# Altium footprint library TerminalBlock_MetzConnect.PcbLib: 61 footprints (part 3 of 4)
Each footprint in its own frame and in the unit in brackets; x right, y up, seen from the top. Pads: shape width x height; smd on the part's side, far side on the other; paste and mask are expansions set on the pad; w line width, h text height; cw(c..) or ccw(c..) is an arc to the next point about the centre after c.
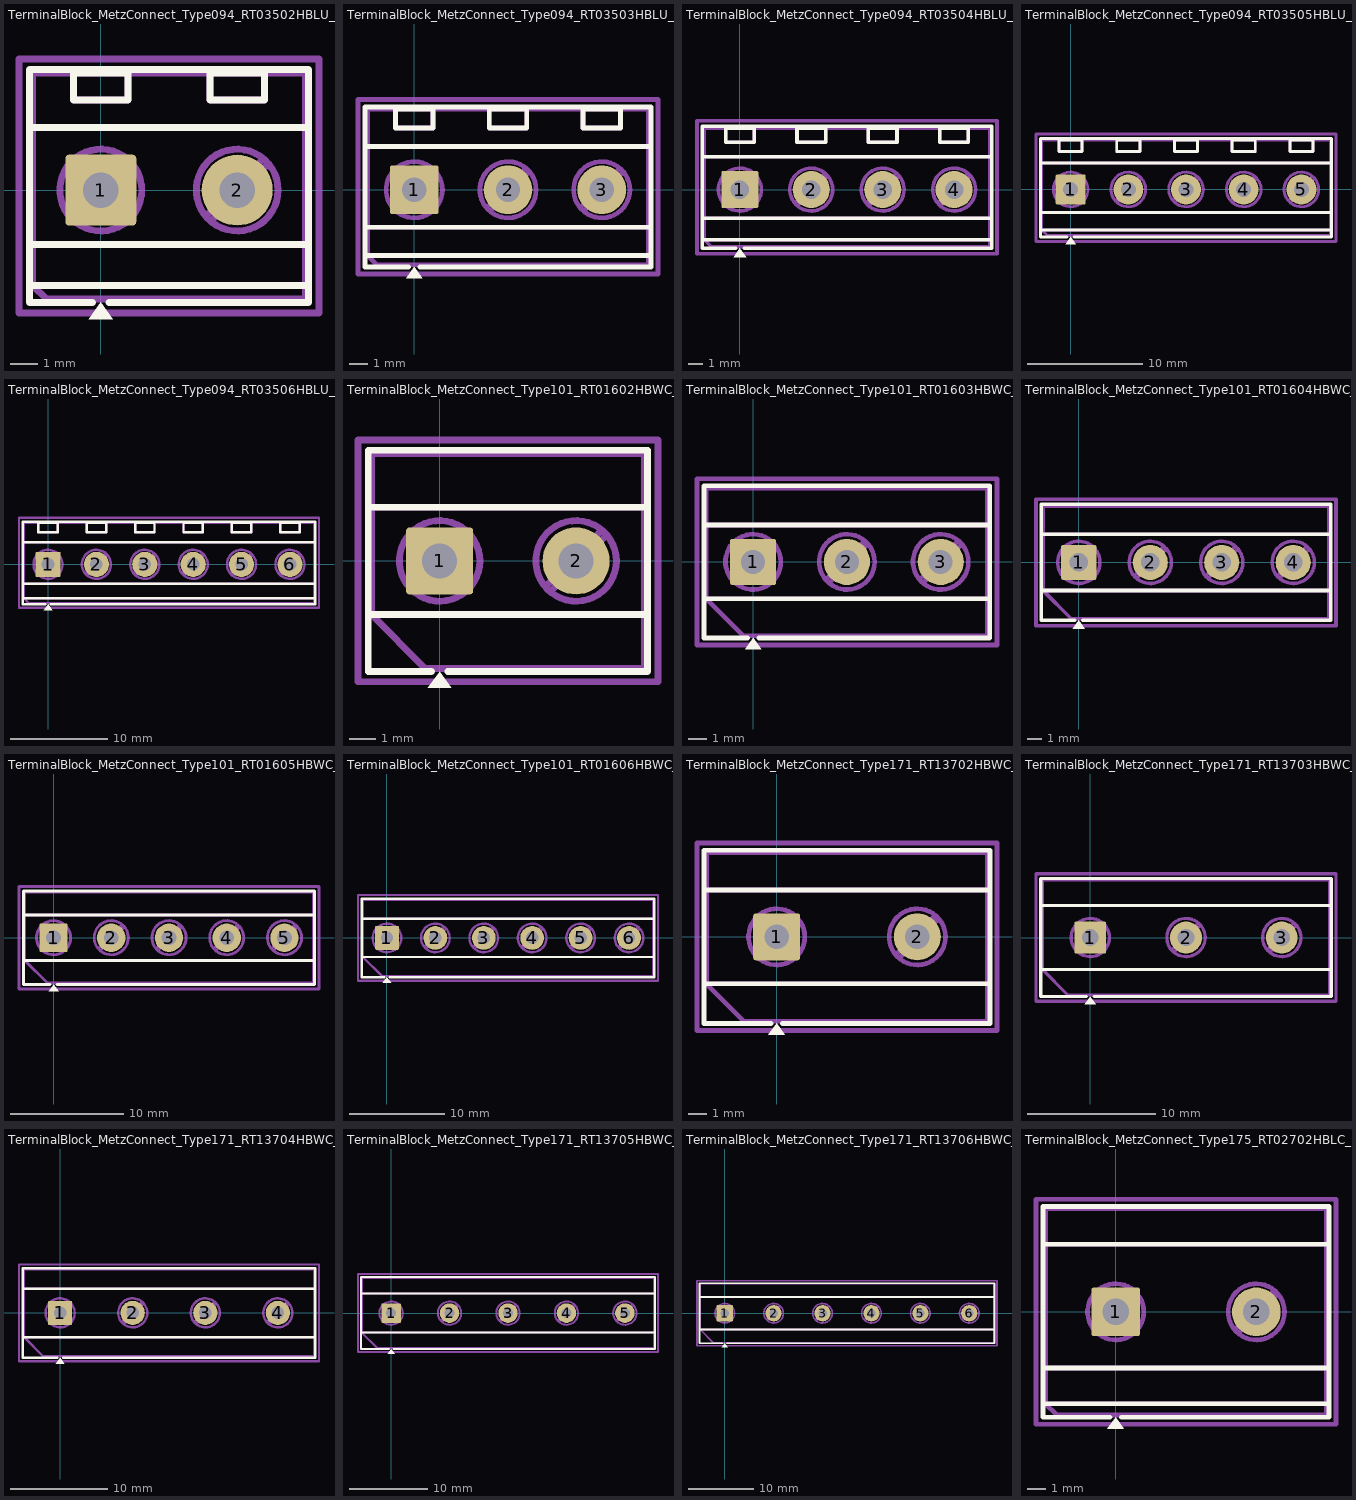
[diagram p2: the footprints below, top view; thin cyan lines are the x and y axes]

## TerminalBlock_MetzConnect_Type094_RT03502HBLU_1x02_P5.00mm_Horizontal [mm]
pads (2):
  rrect10% 2.6x2.6 hole 1.3: 1(0,0)
  round 2.6 hole 1.3: 2(5,0)
F.SilkS:
  region: 0.44,-4.73 -0.44,-4.73 0,-4.12
  lines w0.254: -2.62,-3.5 7.62,-3.5 ; -2.62,-2 7.62,-2 ; -2.62,2.3 7.62,2.3 ; -0.3,-4.12 -2.62,-4.12 -2.62,4.42 7.62,4.42 7.62,-4.12 0.3,-4.12 ; -1,3.3 -1,4.3 1,4.3 1,3.3 -1,3.3 ; 4,3.3 4,4.3 6,4.3 6,3.3 4,3.3
F.Fab:
  circle w0.254: c0,0 r1.5
  circle w0.254: c5,0 r1.5
  lines w0.254: -2.5,-2 7.5,-2 ; -2.5,2.3 7.5,2.3 ; -1.138,-0.955 0.955,1.138 ; -0.955,-1.138 1.138,0.955 ; 3.862,-0.955 5.955,1.138 ; 4.045,-1.138 6.138,0.955 ; 7.5,-3.5 -2.5,-3.5 ; -2.5,-3.5 -2.5,4.3 7.5,4.3 7.5,-4 -2,-4 -2.5,-3.5 ; -1,3.3 -1,4.3 1,4.3 1,3.3 -1,3.3 ; 4,3.3 4,4.3 6,4.3 6,3.3 4,3.3
  text "'.Designator'" at -1.547,-3.59 h1
F.CrtYd:
  lines w0.254: -3,-4.5 -3,4.81 8,4.81 8,-4.5 -3,-4.5

## TerminalBlock_MetzConnect_Type094_RT03503HBLU_1x03_P5.00mm_Horizontal [mm]
pads (3):
  rrect10% 2.6x2.6 hole 1.3: 1(0,0)
  round 2.6 hole 1.3: 2(5,0) 3(10,0)
F.SilkS:
  region: 0.44,-4.73 -0.44,-4.73 0,-4.12
  lines w0.254: -2.62,-3.5 12.62,-3.5 ; -2.62,-2 12.62,-2 ; -2.62,2.3 12.62,2.3 ; -0.3,-4.12 -2.62,-4.12 -2.62,4.42 12.62,4.42 12.62,-4.12 0.3,-4.12 ; -1,3.3 -1,4.3 1,4.3 1,3.3 -1,3.3 ; 4,3.3 4,4.3 6,4.3 6,3.3 4,3.3 ; 9,3.3 9,4.3 11,4.3 11,3.3 9,3.3
F.Fab:
  circle w0.254: c0,0 r1.5
  circle w0.254: c5,0 r1.5
  circle w0.254: c10,0 r1.5
  lines w0.254: -2.5,-2 12.5,-2 ; -2.5,2.3 12.5,2.3 ; -1.138,-0.955 0.955,1.138 ; -0.955,-1.138 1.138,0.955 ; 3.862,-0.955 5.955,1.138 ; 4.045,-1.138 6.138,0.955 ; 8.862,-0.955 10.955,1.138 ; 9.045,-1.138 11.138,0.955 ; 12.5,-3.5 -2.5,-3.5 ; -2.5,-3.5 -2.5,4.3 12.5,4.3 12.5,-4 -2,-4 -2.5,-3.5 ; -1,3.3 -1,4.3 1,4.3 1,3.3 -1,3.3 ; 4,3.3 4,4.3 6,4.3 6,3.3 4,3.3 ; 9,3.3 9,4.3 11,4.3 11,3.3 9,3.3
  text "'.Designator'" at 0.953,-3.59 h1
F.CrtYd:
  lines w0.254: -3,-4.5 -3,4.81 13,4.81 13,-4.5 -3,-4.5

## TerminalBlock_MetzConnect_Type094_RT03504HBLU_1x04_P5.00mm_Horizontal [mm]
pads (4):
  rrect10% 2.6x2.6 hole 1.3: 1(0,0)
  round 2.6 hole 1.3: 2(5,0) 3(10,0) 4(15,0)
F.SilkS:
  region: 0.44,-4.73 -0.44,-4.73 0,-4.12
  lines w0.254: -2.62,-3.5 17.62,-3.5 ; -2.62,-2 17.62,-2 ; -2.62,2.3 17.62,2.3 ; -0.3,-4.12 -2.62,-4.12 -2.62,4.42 17.62,4.42 17.62,-4.12 0.3,-4.12 ; -1,3.3 -1,4.3 1,4.3 1,3.3 -1,3.3 ; 4,3.3 4,4.3 6,4.3 6,3.3 4,3.3 ; 9,3.3 9,4.3 11,4.3 11,3.3 9,3.3 ; 14,3.3 14,4.3 16,4.3 16,3.3 14,3.3
F.Fab:
  circle w0.254: c0,0 r1.5
  circle w0.254: c5,0 r1.5
  circle w0.254: c10,0 r1.5
  circle w0.254: c15,0 r1.5
  lines w0.254: -2.5,-2 17.5,-2 ; -2.5,2.3 17.5,2.3 ; -1.138,-0.955 0.955,1.138 ; -0.955,-1.138 1.138,0.955 ; 3.862,-0.955 5.955,1.138 ; 4.045,-1.138 6.138,0.955 ; 8.862,-0.955 10.955,1.138 ; 9.045,-1.138 11.138,0.955 ; 13.862,-0.955 15.955,1.138 ; 14.045,-1.138 16.138,0.955 ; 17.5,-3.5 -2.5,-3.5 ; -2.5,-3.5 -2.5,4.3 17.5,4.3 17.5,-4 -2,-4 -2.5,-3.5 ; -1,3.3 -1,4.3 1,4.3 1,3.3 -1,3.3 ; 4,3.3 4,4.3 6,4.3 6,3.3 4,3.3 ; 9,3.3 9,4.3 11,4.3 11,3.3 9,3.3 ; 14,3.3 14,4.3 16,4.3 16,3.3 14,3.3
  text "'.Designator'" at 3.453,-3.59 h1
F.CrtYd:
  lines w0.254: -3,-4.5 -3,4.81 18,4.81 18,-4.5 -3,-4.5

## TerminalBlock_MetzConnect_Type094_RT03505HBLU_1x05_P5.00mm_Horizontal [mm]
pads (5):
  rrect10% 2.6x2.6 hole 1.3: 1(0,0)
  round 2.6 hole 1.3: 2(5,0) 3(10,0) 4(15,0) 5(20,0)
F.SilkS:
  region: 0.44,-4.73 -0.44,-4.73 0,-4.12
  lines w0.254: -2.62,-3.5 22.62,-3.5 ; -2.62,-2 22.62,-2 ; -2.62,2.3 22.62,2.3 ; -0.3,-4.12 -2.62,-4.12 -2.62,4.42 22.62,4.42 22.62,-4.12 0.3,-4.12 ; -1,3.3 -1,4.3 1,4.3 1,3.3 -1,3.3 ; 4,3.3 4,4.3 6,4.3 6,3.3 4,3.3 ; 9,3.3 9,4.3 11,4.3 11,3.3 9,3.3 ; 14,3.3 14,4.3 16,4.3 16,3.3 14,3.3 ; 19,3.3 19,4.3 21,4.3 21,3.3 19,3.3
F.Fab:
  circle w0.254: c0,0 r1.5
  circle w0.254: c5,0 r1.5
  circle w0.254: c10,0 r1.5
  circle w0.254: c15,0 r1.5
  circle w0.254: c20,0 r1.5
  lines w0.254: -2.5,-2 22.5,-2 ; -2.5,2.3 22.5,2.3 ; -1.138,-0.955 0.955,1.138 ; -0.955,-1.138 1.138,0.955 ; 3.862,-0.955 5.955,1.138 ; 4.045,-1.138 6.138,0.955 ; 8.862,-0.955 10.955,1.138 ; 9.045,-1.138 11.138,0.955 ; 13.862,-0.955 15.955,1.138 ; 14.045,-1.138 16.138,0.955 ; 18.862,-0.955 20.955,1.138 ; 19.045,-1.138 21.138,0.955 ; 22.5,-3.5 -2.5,-3.5 ; -2.5,-3.5 -2.5,4.3 22.5,4.3 22.5,-4 -2,-4 -2.5,-3.5 ; -1,3.3 -1,4.3 1,4.3 1,3.3 -1,3.3 ; 4,3.3 4,4.3 6,4.3 6,3.3 4,3.3 ; 9,3.3 9,4.3 11,4.3 11,3.3 9,3.3 ; 14,3.3 14,4.3 16,4.3 16,3.3 14,3.3 ; 19,3.3 19,4.3 21,4.3 21,3.3 19,3.3
  text "'.Designator'" at 5.953,-3.59 h1
F.CrtYd:
  lines w0.254: -3,-4.5 -3,4.81 23,4.81 23,-4.5 -3,-4.5

## TerminalBlock_MetzConnect_Type094_RT03506HBLU_1x06_P5.00mm_Horizontal [mm]
pads (6):
  rrect10% 2.6x2.6 hole 1.3: 1(0,0)
  round 2.6 hole 1.3: 2(5,0) 3(10,0) 4(15,0) 5(20,0) 6(25,0)
F.SilkS:
  region: 0.44,-4.73 -0.44,-4.73 0,-4.12
  lines w0.254: -2.62,-3.5 27.62,-3.5 ; -2.62,-2 27.62,-2 ; -2.62,2.3 27.62,2.3 ; -0.3,-4.12 -2.62,-4.12 -2.62,4.42 27.62,4.42 27.62,-4.12 0.3,-4.12 ; -1,3.3 -1,4.3 1,4.3 1,3.3 -1,3.3 ; 4,3.3 4,4.3 6,4.3 6,3.3 4,3.3 ; 9,3.3 9,4.3 11,4.3 11,3.3 9,3.3 ; 14,3.3 14,4.3 16,4.3 16,3.3 14,3.3 ; 19,3.3 19,4.3 21,4.3 21,3.3 19,3.3 ; 24,3.3 24,4.3 26,4.3 26,3.3 24,3.3
F.Fab:
  circle w0.254: c0,0 r1.5
  circle w0.254: c5,0 r1.5
  circle w0.254: c10,0 r1.5
  circle w0.254: c15,0 r1.5
  circle w0.254: c20,0 r1.5
  circle w0.254: c25,0 r1.5
  lines w0.254: -2.5,-2 27.5,-2 ; -2.5,2.3 27.5,2.3 ; -1.138,-0.955 0.955,1.138 ; -0.955,-1.138 1.138,0.955 ; 3.862,-0.955 5.955,1.138 ; 4.045,-1.138 6.138,0.955 ; 8.862,-0.955 10.955,1.138 ; 9.045,-1.138 11.138,0.955 ; 13.862,-0.955 15.955,1.138 ; 14.045,-1.138 16.138,0.955 ; 18.862,-0.955 20.955,1.138 ; 19.045,-1.138 21.138,0.955 ; 23.862,-0.955 25.955,1.138 ; 24.045,-1.138 26.138,0.955 ; 27.5,-3.5 -2.5,-3.5 ; -2.5,-3.5 -2.5,4.3 27.5,4.3 27.5,-4 -2,-4 -2.5,-3.5 ; -1,3.3 -1,4.3 1,4.3 1,3.3 -1,3.3 ; 4,3.3 4,4.3 6,4.3 6,3.3 4,3.3 ; 9,3.3 9,4.3 11,4.3 11,3.3 9,3.3 ; 14,3.3 14,4.3 16,4.3 16,3.3 14,3.3 ; 19,3.3 19,4.3 21,4.3 21,3.3 19,3.3 ; 24,3.3 24,4.3 26,4.3 26,3.3 24,3.3
  text "'.Designator'" at 8.453,-3.59 h1
F.CrtYd:
  lines w0.254: -3,-4.5 -3,4.81 28,4.81 28,-4.5 -3,-4.5

## TerminalBlock_MetzConnect_Type101_RT01602HBWC_1x02_P5.08mm_Horizontal [mm]
pads (2):
  rrect10% 2.5x2.5 hole 1.3: 1(0,0)
  round 2.5 hole 1.3: 2(5.08,0)
F.SilkS:
  region: 0.44,-4.73 -0.44,-4.73 0,-4.12
  lines w0.254: -2.66,-2 7.74,-2 ; -2.66,2 7.74,2 ; -0.3,-4.12 -2.66,-4.12 -2.66,4.12 7.74,4.12 7.74,-4.12 0.3,-4.12
F.Fab:
  circle w0.254: c0,0 r1.5
  circle w0.254: c5.08,0 r1.5
  lines w0.254: -2.54,2 7.62,2 ; -1.138,-0.955 0.955,1.138 ; -0.955,-1.138 1.138,0.955 ; 3.942,-0.955 6.035,1.138 ; 4.125,-1.138 6.218,0.955 ; 7.62,-2 -2.54,-2 ; -2.54,-2 -2.54,4 7.62,4 7.62,-4 -0.54,-4 -2.54,-2
  text "'.Designator'" at -1.507,-3.84 h1
F.CrtYd:
  lines w0.254: -3.04,-4.5 -3.04,4.5 8.13,4.5 8.13,-4.5 -3.04,-4.5

## TerminalBlock_MetzConnect_Type101_RT01603HBWC_1x03_P5.08mm_Horizontal [mm]
pads (3):
  rrect10% 2.5x2.5 hole 1.3: 1(0,0)
  round 2.5 hole 1.3: 2(5.08,0) 3(10.16,0)
F.SilkS:
  region: 0.44,-4.73 -0.44,-4.73 0,-4.12
  lines w0.254: -2.66,-2 12.82,-2 ; -2.66,2 12.82,2 ; -0.3,-4.12 -2.66,-4.12 -2.66,4.12 12.82,4.12 12.82,-4.12 0.3,-4.12
F.Fab:
  circle w0.254: c0,0 r1.5
  circle w0.254: c5.08,0 r1.5
  circle w0.254: c10.16,0 r1.5
  lines w0.254: -2.54,2 12.7,2 ; -1.138,-0.955 0.955,1.138 ; -0.955,-1.138 1.138,0.955 ; 3.942,-0.955 6.035,1.138 ; 4.125,-1.138 6.218,0.955 ; 9.022,-0.955 11.115,1.138 ; 9.205,-1.138 11.298,0.955 ; 12.7,-2 -2.54,-2 ; -2.54,-2 -2.54,4 12.7,4 12.7,-4 -0.54,-4 -2.54,-2
  text "'.Designator'" at 1.033,-3.84 h1
F.CrtYd:
  lines w0.254: -3.04,-4.5 -3.04,4.5 13.21,4.5 13.21,-4.5 -3.04,-4.5

## TerminalBlock_MetzConnect_Type101_RT01604HBWC_1x04_P5.08mm_Horizontal [mm]
pads (4):
  rrect10% 2.5x2.5 hole 1.3: 1(0,0)
  round 2.5 hole 1.3: 2(5.08,0) 3(10.16,0) 4(15.24,0)
F.SilkS:
  region: 0.44,-4.73 -0.44,-4.73 0,-4.12
  lines w0.254: -2.66,-2 17.9,-2 ; -2.66,2 17.9,2 ; -0.3,-4.12 -2.66,-4.12 -2.66,4.12 17.9,4.12 17.9,-4.12 0.3,-4.12
F.Fab:
  circle w0.254: c0,0 r1.5
  circle w0.254: c5.08,0 r1.5
  circle w0.254: c10.16,0 r1.5
  circle w0.254: c15.24,0 r1.5
  lines w0.254: -2.54,2 17.78,2 ; -1.138,-0.955 0.955,1.138 ; -0.955,-1.138 1.138,0.955 ; 3.942,-0.955 6.035,1.138 ; 4.125,-1.138 6.218,0.955 ; 9.022,-0.955 11.115,1.138 ; 9.205,-1.138 11.298,0.955 ; 14.102,-0.955 16.195,1.138 ; 14.285,-1.138 16.378,0.955 ; 17.78,-2 -2.54,-2 ; -2.54,-2 -2.54,4 17.78,4 17.78,-4 -0.54,-4 -2.54,-2
  text "'.Designator'" at 3.573,-3.84 h1
F.CrtYd:
  lines w0.254: -3.04,-4.5 -3.04,4.5 18.28,4.5 18.28,-4.5 -3.04,-4.5

## TerminalBlock_MetzConnect_Type101_RT01605HBWC_1x05_P5.08mm_Horizontal [mm]
pads (5):
  rrect10% 2.5x2.5 hole 1.3: 1(0,0)
  round 2.5 hole 1.3: 2(5.08,0) 3(10.16,0) 4(15.24,0) 5(20.32,0)
F.SilkS:
  region: 0.44,-4.73 -0.44,-4.73 0,-4.12
  lines w0.254: -2.66,-2 22.98,-2 ; -2.66,2 22.98,2 ; -0.3,-4.12 -2.66,-4.12 -2.66,4.12 22.98,4.12 22.98,-4.12 0.3,-4.12
F.Fab:
  circle w0.254: c0,0 r1.5
  circle w0.254: c5.08,0 r1.5
  circle w0.254: c10.16,0 r1.5
  circle w0.254: c15.24,0 r1.5
  circle w0.254: c20.32,0 r1.5
  lines w0.254: -2.54,2 22.86,2 ; -1.138,-0.955 0.955,1.138 ; -0.955,-1.138 1.138,0.955 ; 3.942,-0.955 6.035,1.138 ; 4.125,-1.138 6.218,0.955 ; 9.022,-0.955 11.115,1.138 ; 9.205,-1.138 11.298,0.955 ; 14.102,-0.955 16.195,1.138 ; 14.285,-1.138 16.378,0.955 ; 19.182,-0.955 21.275,1.138 ; 19.365,-1.138 21.458,0.955 ; 22.86,-2 -2.54,-2 ; -2.54,-2 -2.54,4 22.86,4 22.86,-4 -0.54,-4 -2.54,-2
  text "'.Designator'" at 6.113,-3.84 h1
F.CrtYd:
  lines w0.254: -3.04,-4.5 -3.04,4.5 23.36,4.5 23.36,-4.5 -3.04,-4.5

## TerminalBlock_MetzConnect_Type101_RT01606HBWC_1x06_P5.08mm_Horizontal [mm]
pads (6):
  rrect10% 2.5x2.5 hole 1.3: 1(0,0)
  round 2.5 hole 1.3: 2(5.08,0) 3(10.16,0) 4(15.24,0) 5(20.32,0) 6(25.4,0)
F.SilkS:
  region: 0.44,-4.73 -0.44,-4.73 0,-4.12
  lines w0.254: -2.66,-2 28.06,-2 ; -2.66,2 28.06,2 ; -0.3,-4.12 -2.66,-4.12 -2.66,4.12 28.06,4.12 28.06,-4.12 0.3,-4.12
F.Fab:
  circle w0.254: c0,0 r1.5
  circle w0.254: c5.08,0 r1.5
  circle w0.254: c10.16,0 r1.5
  circle w0.254: c15.24,0 r1.5
  circle w0.254: c20.32,0 r1.5
  circle w0.254: c25.4,0 r1.5
  lines w0.254: -2.54,2 27.94,2 ; -1.138,-0.955 0.955,1.138 ; -0.955,-1.138 1.138,0.955 ; 3.942,-0.955 6.035,1.138 ; 4.125,-1.138 6.218,0.955 ; 9.022,-0.955 11.115,1.138 ; 9.205,-1.138 11.298,0.955 ; 14.102,-0.955 16.195,1.138 ; 14.285,-1.138 16.378,0.955 ; 19.182,-0.955 21.275,1.138 ; 19.365,-1.138 21.458,0.955 ; 24.262,-0.955 26.355,1.138 ; 24.445,-1.138 26.538,0.955 ; 27.94,-2 -2.54,-2 ; -2.54,-2 -2.54,4 27.94,4 27.94,-4 -0.54,-4 -2.54,-2
  text "'.Designator'" at 8.653,-3.84 h1
F.CrtYd:
  lines w0.254: -3.04,-4.5 -3.04,4.5 28.44,4.5 28.44,-4.5 -3.04,-4.5

## TerminalBlock_MetzConnect_Type171_RT13702HBWC_1x02_P7.50mm_Horizontal [mm]
pads (2):
  rrect10% 2.5x2.5 hole 1.3: 1(0,0)
  round 2.5 hole 1.3: 2(7.5,0)
F.SilkS:
  region: 0.44,-5.23 -0.44,-5.23 0,-4.62
  lines w0.254: -3.87,-2.5 11.37,-2.5 ; -3.87,2.5 11.37,2.5 ; -0.3,-4.62 -3.87,-4.62 -3.87,4.62 11.37,4.62 11.37,-4.62 0.3,-4.62
F.Fab:
  circle w0.254: c0,0 r1.5
  circle w0.254: c7.5,0 r1.5
  lines w0.254: -3.75,2.5 11.25,2.5 ; -1.138,-0.955 0.955,1.138 ; -0.955,-1.138 1.138,0.955 ; 6.362,-0.955 8.455,1.138 ; 6.545,-1.138 8.638,0.955 ; 11.25,-2.5 -3.75,-2.5 ; -3.75,-2.5 -3.75,4.5 11.25,4.5 11.25,-4.5 -1.75,-4.5 -3.75,-2.5
  text "'.Designator'" at -0.297,-4.34 h1
F.CrtYd:
  lines w0.254: -4.25,-5 -4.25,5 11.75,5 11.75,-5 -4.25,-5

## TerminalBlock_MetzConnect_Type171_RT13703HBWC_1x03_P7.50mm_Horizontal [mm]
pads (3):
  rrect10% 2.5x2.5 hole 1.3: 1(0,0)
  round 2.5 hole 1.3: 2(7.5,0) 3(15,0)
F.SilkS:
  region: 0.44,-5.23 -0.44,-5.23 0,-4.62
  lines w0.254: -3.87,-2.5 18.87,-2.5 ; -3.87,2.5 18.87,2.5 ; -0.3,-4.62 -3.87,-4.62 -3.87,4.62 18.87,4.62 18.87,-4.62 0.3,-4.62
F.Fab:
  circle w0.254: c0,0 r1.5
  circle w0.254: c7.5,0 r1.5
  circle w0.254: c15,0 r1.5
  lines w0.254: -3.75,2.5 18.75,2.5 ; -1.138,-0.955 0.955,1.138 ; -0.955,-1.138 1.138,0.955 ; 6.362,-0.955 8.455,1.138 ; 6.545,-1.138 8.638,0.955 ; 13.862,-0.955 15.955,1.138 ; 14.045,-1.138 16.138,0.955 ; 18.75,-2.5 -3.75,-2.5 ; -3.75,-2.5 -3.75,4.5 18.75,4.5 18.75,-4.5 -1.75,-4.5 -3.75,-2.5
  text "'.Designator'" at 3.453,-4.34 h1
F.CrtYd:
  lines w0.254: -4.25,-5 -4.25,5 19.25,5 19.25,-5 -4.25,-5

## TerminalBlock_MetzConnect_Type171_RT13704HBWC_1x04_P7.50mm_Horizontal [mm]
pads (4):
  rrect10% 2.5x2.5 hole 1.3: 1(0,0)
  round 2.5 hole 1.3: 2(7.5,0) 3(15,0) 4(22.5,0)
F.SilkS:
  region: 0.44,-5.23 -0.44,-5.23 0,-4.62
  lines w0.254: -3.87,-2.5 26.37,-2.5 ; -3.87,2.5 26.37,2.5 ; -0.3,-4.62 -3.87,-4.62 -3.87,4.62 26.37,4.62 26.37,-4.62 0.3,-4.62
F.Fab:
  circle w0.254: c0,0 r1.5
  circle w0.254: c7.5,0 r1.5
  circle w0.254: c15,0 r1.5
  circle w0.254: c22.5,0 r1.5
  lines w0.254: -3.75,2.5 26.25,2.5 ; -1.138,-0.955 0.955,1.138 ; -0.955,-1.138 1.138,0.955 ; 6.362,-0.955 8.455,1.138 ; 6.545,-1.138 8.638,0.955 ; 13.862,-0.955 15.955,1.138 ; 14.045,-1.138 16.138,0.955 ; 21.362,-0.955 23.455,1.138 ; 21.545,-1.138 23.638,0.955 ; 26.25,-2.5 -3.75,-2.5 ; -3.75,-2.5 -3.75,4.5 26.25,4.5 26.25,-4.5 -1.75,-4.5 -3.75,-2.5
  text "'.Designator'" at 7.203,-4.34 h1
F.CrtYd:
  lines w0.254: -4.25,-5 -4.25,5 26.75,5 26.75,-5 -4.25,-5

## TerminalBlock_MetzConnect_Type171_RT13705HBWC_1x05_P7.50mm_Horizontal [mm]
pads (5):
  rrect10% 2.5x2.5 hole 1.3: 1(0,0)
  round 2.5 hole 1.3: 2(7.5,0) 3(15,0) 4(22.5,0) 5(30,0)
F.SilkS:
  region: 0.44,-5.23 -0.44,-5.23 0,-4.62
  lines w0.254: -3.87,-2.5 33.87,-2.5 ; -3.87,2.5 33.87,2.5 ; -0.3,-4.62 -3.87,-4.62 -3.87,4.62 33.87,4.62 33.87,-4.62 0.3,-4.62
F.Fab:
  circle w0.254: c0,0 r1.5
  circle w0.254: c7.5,0 r1.5
  circle w0.254: c15,0 r1.5
  circle w0.254: c22.5,0 r1.5
  circle w0.254: c30,0 r1.5
  lines w0.254: -3.75,2.5 33.75,2.5 ; -1.138,-0.955 0.955,1.138 ; -0.955,-1.138 1.138,0.955 ; 6.362,-0.955 8.455,1.138 ; 6.545,-1.138 8.638,0.955 ; 13.862,-0.955 15.955,1.138 ; 14.045,-1.138 16.138,0.955 ; 21.362,-0.955 23.455,1.138 ; 21.545,-1.138 23.638,0.955 ; 28.862,-0.955 30.955,1.138 ; 29.045,-1.138 31.138,0.955 ; 33.75,-2.5 -3.75,-2.5 ; -3.75,-2.5 -3.75,4.5 33.75,4.5 33.75,-4.5 -1.75,-4.5 -3.75,-2.5
  text "'.Designator'" at 10.953,-4.34 h1
F.CrtYd:
  lines w0.254: -4.25,-5 -4.25,5 34.25,5 34.25,-5 -4.25,-5

## TerminalBlock_MetzConnect_Type171_RT13706HBWC_1x06_P7.50mm_Horizontal [mm]
pads (6):
  rrect10% 2.5x2.5 hole 1.3: 1(0,0)
  round 2.5 hole 1.3: 2(7.5,0) 3(15,0) 4(22.5,0) 5(30,0) 6(37.5,0)
F.SilkS:
  region: 0.44,-5.23 -0.44,-5.23 0,-4.62
  lines w0.254: -3.87,-2.5 41.37,-2.5 ; -3.87,2.5 41.37,2.5 ; -0.3,-4.62 -3.87,-4.62 -3.87,4.62 41.37,4.62 41.37,-4.62 0.3,-4.62
F.Fab:
  circle w0.254: c0,0 r1.5
  circle w0.254: c7.5,0 r1.5
  circle w0.254: c15,0 r1.5
  circle w0.254: c22.5,0 r1.5
  circle w0.254: c30,0 r1.5
  circle w0.254: c37.5,0 r1.5
  lines w0.254: -3.75,2.5 41.25,2.5 ; -1.138,-0.955 0.955,1.138 ; -0.955,-1.138 1.138,0.955 ; 6.362,-0.955 8.455,1.138 ; 6.545,-1.138 8.638,0.955 ; 13.862,-0.955 15.955,1.138 ; 14.045,-1.138 16.138,0.955 ; 21.362,-0.955 23.455,1.138 ; 21.545,-1.138 23.638,0.955 ; 28.862,-0.955 30.955,1.138 ; 29.045,-1.138 31.138,0.955 ; 36.362,-0.955 38.455,1.138 ; 36.545,-1.138 38.638,0.955 ; 41.25,-2.5 -3.75,-2.5 ; -3.75,-2.5 -3.75,4.5 41.25,4.5 41.25,-4.5 -1.75,-4.5 -3.75,-2.5
  text "'.Designator'" at 14.703,-4.34 h1
F.CrtYd:
  lines w0.254: -4.25,-5 -4.25,5 41.75,5 41.75,-5 -4.25,-5

## TerminalBlock_MetzConnect_Type175_RT02702HBLC_1x02_P7.50mm_Horizontal [mm]
pads (2):
  rrect10% 2.6x2.6 hole 1.4: 1(0,0)
  round 2.6 hole 1.4: 2(7.5,0)
F.SilkS:
  region: 0.44,-6.23 -0.44,-6.23 0,-5.62
  lines w0.254: -3.87,-4.9 11.37,-4.9 ; -3.87,-3 11.37,-3 ; -3.87,3.6 11.37,3.6 ; -0.3,-5.62 -3.87,-5.62 -3.87,5.62 11.37,5.62 11.37,-5.62 0.3,-5.62
F.Fab:
  circle w0.254: c0,0 r1.5
  circle w0.254: c7.5,0 r1.5
  lines w0.254: -3.75,-3 11.25,-3 ; -3.75,3.6 11.25,3.6 ; -1.138,-0.955 0.955,1.138 ; -0.955,-1.138 1.138,0.955 ; 6.362,-0.955 8.455,1.138 ; 6.545,-1.138 8.638,0.955 ; 11.25,-4.9 -3.75,-4.9 ; -3.75,-4.9 -3.75,5.5 11.25,5.5 11.25,-5.5 -3.15,-5.5 -3.75,-4.9
  text "'.Designator'" at -0.297,-4.84 h1
F.CrtYd:
  lines w0.254: -4.25,-6 -4.25,6 11.75,6 11.75,-6 -4.25,-6